# EAGLE library part AT91SAM9260B-QU (library atmega-atxmega)
AT91SAM9260 MCU AT91 ARM-9 Thumb Microcontroller
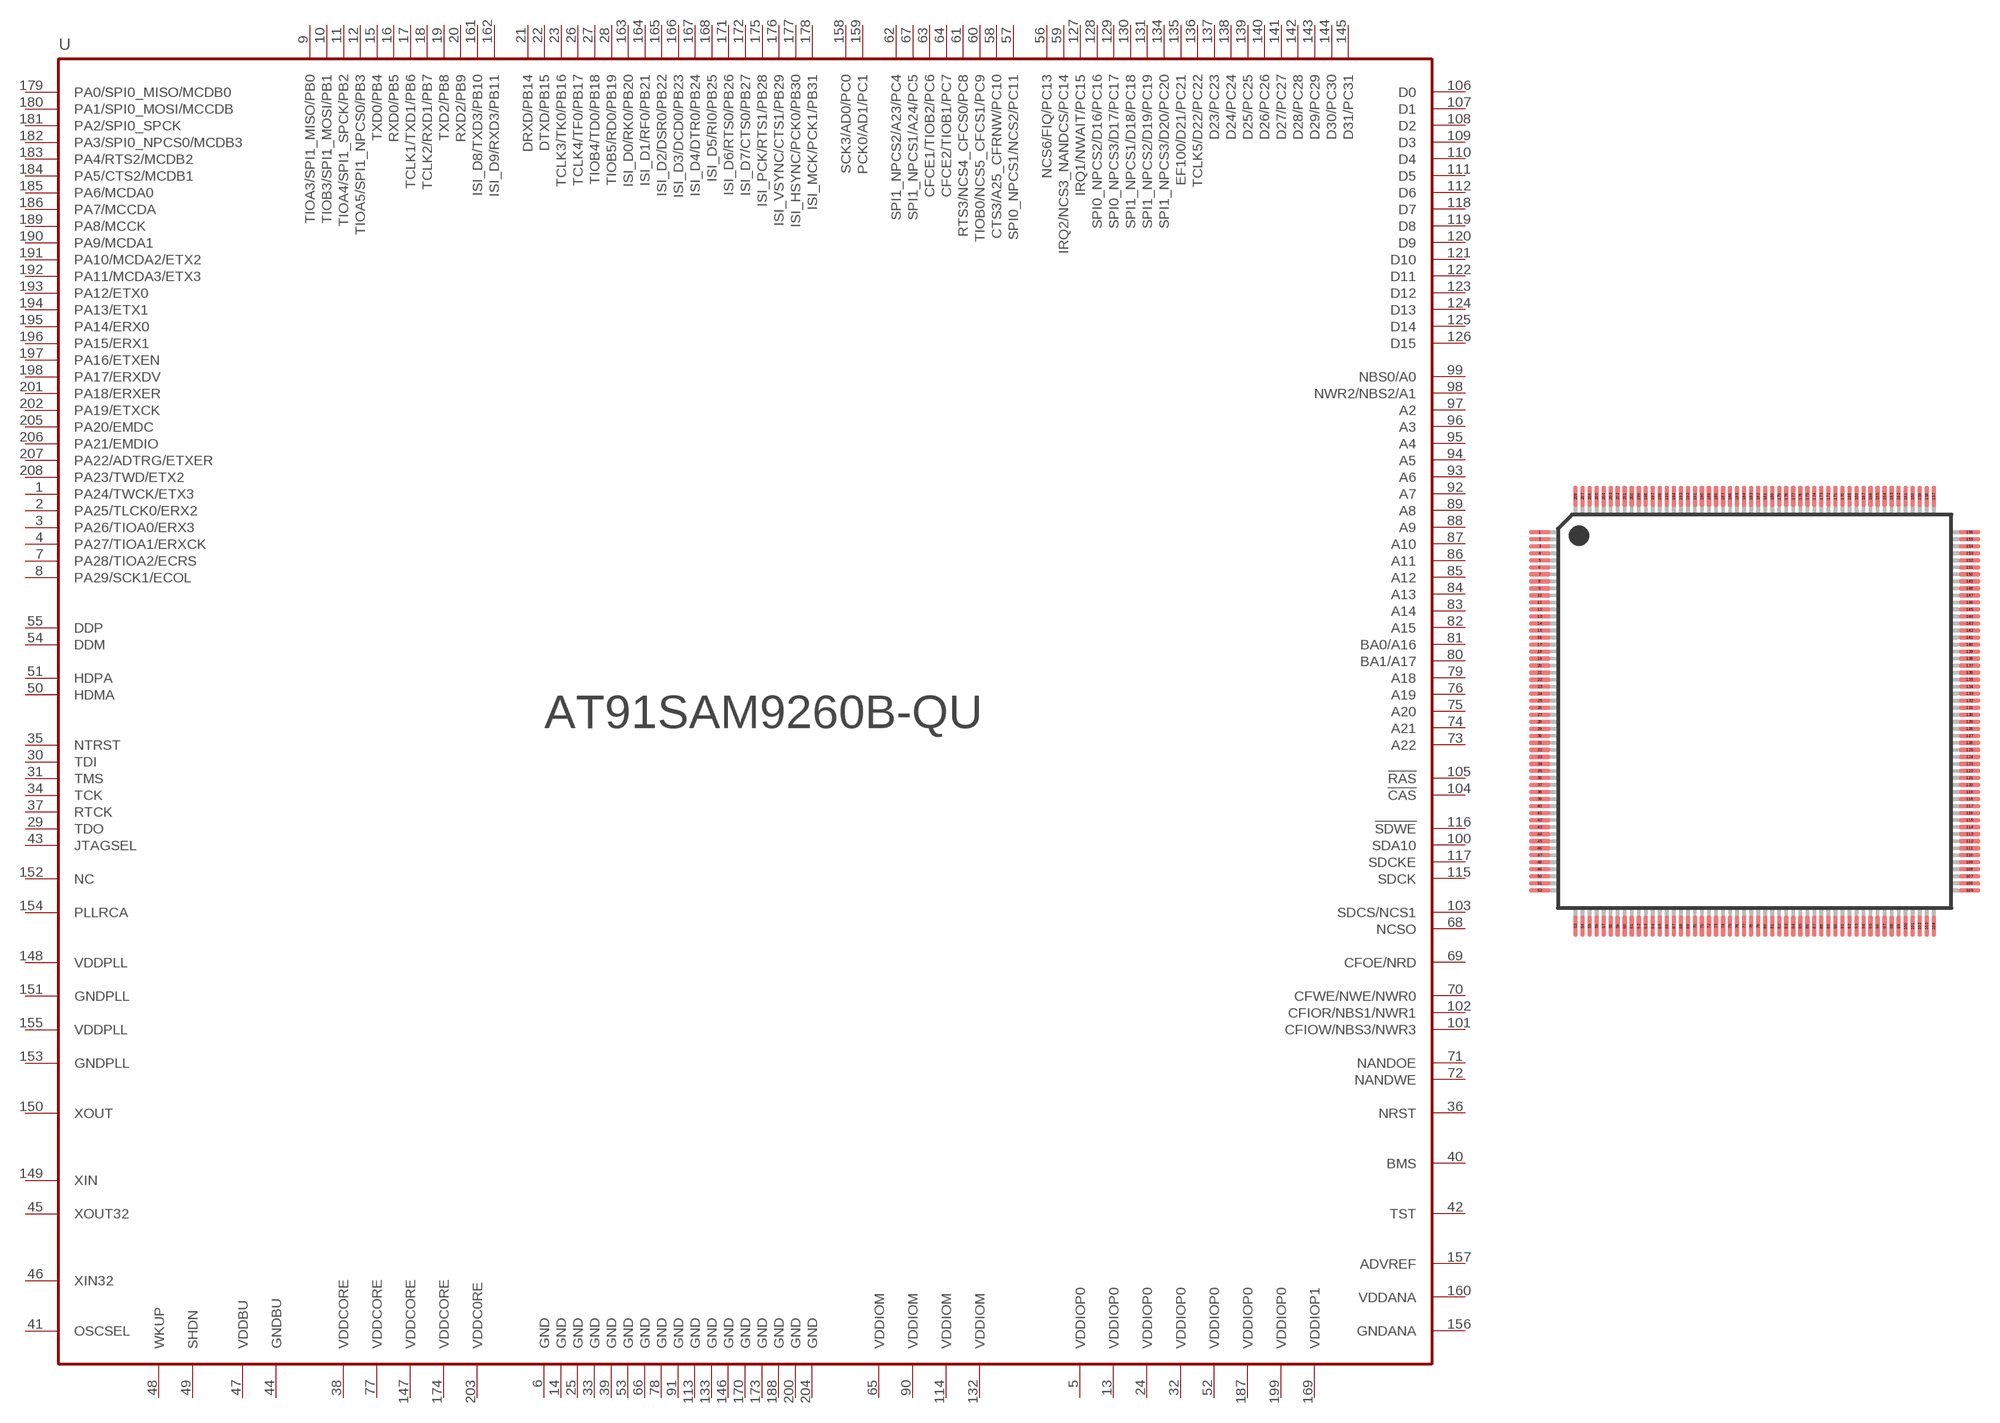
[diagram p149: symbol with the pads of PQFP208; footprint PQFP208]

Designator prefix U

## AT91SAM9260B-QU  [PQFP208]
1  PA24/TWCK/ETX3
2  PA25/TLCK0/ERX2
3  PA26/TIOA0/ERX3
4  PA27/TIOA1/ERXCK
5  VDDIOP0  pwr
6  GND  pwr
7  PA28/TIOA2/ECRS
8  PA29/SCK1/ECOL
9  TIOA3/SPI1_MISO/PB0
10  TIOB3/SPI1_MOSI/PB1
11  TIOA4/SPI1_SPCK/PB2
12  TIOA5/SPI1_NPCS0/PB3
13  VDDIOP0  pwr
14  GND  pwr
15  TXD0/PB4
16  RXD0/PB5
17  TCLK1/TXD1/PB6
18  TCLK2/RXD1/PB7
19  TXD2/PB8
20  RXD2/PB9
21  DRXD/PB14
22  DTXD/PB15
23  TCLK3/TK0/PB16
24  VDDIOP0  pwr
25  GND  pwr
26  TCLK4/TF0/PB17
27  TIOB4/TD0/PB18
28  TIOB5/RD0/PB19
29  TDO  out
30  TDI  in
31  TMS  in
32  VDDIOP0  pwr
33  GND  pwr
34  TCK  in
35  NTRST
36  NRST
37  RTCK  out
38  VDDCORE  pwr
39  GND  pwr
40  BMS  in
41  OSCSEL  in
42  TST  in
43  JTAGSEL
44  GNDBU  pwr
45  XOUT32  out
46  XIN32  in
47  VDDBU  pwr
48  WKUP  in
49  SHDN  out
50  HDMA
51  HDPA
52  VDDIOP0  pwr
53  GND  pwr
54  DDM
55  DDP
56  NCS6/FIQ/PC13
57  SPI0_NPCS1/NCS2/PC11
58  CTS3/A25_CFRNW/PC10
59  IRQ2/NCS3_NANDCS/PC14
60  TIOB0/NCS5_CFCS1/PC9
61  RTS3/NCS4_CFCS0/PC8
62  SPI1_NPCS2/A23/PC4
63  CFCE1/TIOB2/PC6
64  CFCE2/TIOB1/PC7
65  VDDIOM  pwr
66  GND  pwr
67  SPI1_NPCS1/A24/PC5
68  NCSO  out
69  CFOE/NRD  out
70  CFWE/NWE/NWR0  out
71  NANDOE  out
72  NANDWE  out
73  A22
74  A21
75  A20
76  A19
77  VDDCORE  pwr
78  GND  pwr
79  A18
80  BA1/A17
81  BA0/A16
82  A15
83  A14
84  A13
85  A12
86  A11
87  A10
88  A9
89  A8
90  VDDIOM  pwr
91  GND  pwr
92  A7
93  A6
94  A5
95  A4
96  A3
97  A2
98  NWR2/NBS2/A1
99  NBS0/A0
100  SDA10  out
101  CFIOW/NBS3/NWR3  out
102  CFIOR/NBS1/NWR1  out
103  SDCS/NCS1  out
104  !CAS  out
105  !RAS  out
106  D0
107  D1
108  D2
109  D3
110  D4
111  D5
112  D6
113  GND  pwr
114  VDDIOM  pwr
115  SDCK  out
116  !SDWE  out
117  SDCKE  out
118  D7
119  D8
120  D9
121  D10
122  D11
123  D12
124  D13
125  D14
126  D15
127  IRQ1/NWAIT/PC15
128  SPI0_NPCS2/D16/PC16
129  SPI0_NPCS3/D17/PC17
130  SPI1_NPCS1/D18/PC18
131  SPI1_NPCS2/D19/PC19
132  VDDIOM  pwr
133  GND  pwr
134  SPI1_NPCS3/D20/PC20
135  EF100/D21/PC21
136  TCLK5/D22/PC22
137  D23/PC23
138  D24/PC24
139  D25/PC25
140  D26/PC26
141  D27/PC27
142  D28/PC28
143  D29/PC29
144  D30/PC30
145  D31/PC31
146  GND  pwr
147  VDDCORE  pwr
148  VDDPLL  pwr
149  XIN  in
150  XOUT  out
151  GNDPLL  pwr
152  NC  nc
153  GNDPLL  pwr
154  PLLRCA  in
155  VDDPLL  pwr
156  GNDANA  pwr
157  ADVREF
158  SCK3/AD0/PC0
159  PCK0/AD1/PC1
160  VDDANA  pwr
161  ISI_D8/TXD3/PB10
162  ISI_D9/RXD3/PB11
163  ISI_D0/RK0/PB20
164  ISI_D1/RF0/PB21
165  ISI_D2/DSR0/PB22
166  ISI_D3/DCD0/PB23
167  ISI_D4/DTR0/PB24
168  ISI_D5/RI0/PB25
169  VDDIOP1  pwr
170  GND  pwr
171  ISI_D6/RTS0/PB26
172  ISI_D7/CTS0/PB27
173  GND  pwr
174  VDDCORE  pwr
175  ISI_PCK/RTS1/PB28
176  ISI_VSYNC/CTS1/PB29
177  ISI_HSYNC/PCK0/PB30
178  ISI_MCK/PCK1/PB31
179  PA0/SPI0_MISO/MCDB0
180  PA1/SPI0_MOSI/MCCDB
181  PA2/SPI0_SPCK
182  PA3/SPI0_NPCS0/MCDB3
183  PA4/RTS2/MCDB2
184  PA5/CTS2/MCDB1
185  PA6/MCDA0
186  PA7/MCCDA
187  VDDIOP0  pwr
188  GND  pwr
189  PA8/MCCK
190  PA9/MCDA1
191  PA10/MCDA2/ETX2
192  PA11/MCDA3/ETX3
193  PA12/ETX0
194  PA13/ETX1
195  PA14/ERX0
196  PA15/ERX1
197  PA16/ETXEN
198  PA17/ERXDV
199  VDDIOP0  pwr
200  GND  pwr
201  PA18/ERXER
202  PA19/ETXCK
203  VDDC0RE  pwr
204  GND  pwr
205  PA20/EMDC
206  PA21/EMDIO
207  PA22/ADTRG/ETXER
208  PA23/TWD/ETX2

## Footprint PQFP208 (pad centres in mm)
Plastic Quad Flat Pack 208-pin
smd 1.5 x 0.32: 1 -15.3,12.75; 2 -15.3,12.25; 3 -15.3,11.75; 4 -15.3,11.25; 5 -15.3,10.75; 6 -15.3,10.25; 7 -15.3,9.75; 8 -15.3,9.25; 9 -15.3,8.75; 10 -15.3,8.25; 11 -15.3,7.75; 12 -15.3,7.25; 13 -15.3,6.75; 14 -15.3,6.25; 15 -15.3,5.75; 16 -15.3,5.25; 17 -15.3,4.75; 18 -15.3,4.25; 19 -15.3,3.75; 20 -15.3,3.25; 21 -15.3,2.75; 22 -15.3,2.25; 23 -15.3,1.75; 24 -15.3,1.25; 25 -15.3,0.75; 26 -15.3,0.25; 27 -15.3,-0.25; 28 -15.3,-0.75; 29 -15.3,-1.25; 30 -15.3,-1.75; 31 -15.3,-2.25; 32 -15.3,-2.75; 33 -15.3,-3.25; 34 -15.3,-3.75; 35 -15.3,-4.25; 36 -15.3,-4.75; 37 -15.3,-5.25; 38 -15.3,-5.75; 39 -15.3,-6.25; 40 -15.3,-6.75; 41 -15.3,-7.25; 42 -15.3,-7.75; 43 -15.3,-8.25; 44 -15.3,-8.75; 45 -15.3,-9.25; 46 -15.3,-9.75; 47 -15.3,-10.25; 48 -15.3,-10.75; 49 -15.3,-11.25; 50 -15.3,-11.75; 51 -15.3,-12.25; 52 -15.3,-12.75; 105 15.3,-12.75; 106 15.3,-12.25; 107 15.3,-11.75; 108 15.3,-11.25; 109 15.3,-10.75; 110 15.3,-10.25; 111 15.3,-9.75; 112 15.3,-9.25; 113 15.3,-8.75; 114 15.3,-8.25; 115 15.3,-7.75; 116 15.3,-7.25; 117 15.3,-6.75; 118 15.3,-6.25; 119 15.3,-5.75; 120 15.3,-5.25; 121 15.3,-4.75; 122 15.3,-4.25; 123 15.3,-3.75; 124 15.3,-3.25; 125 15.3,-2.75; 126 15.3,-2.25; 127 15.3,-1.75; 128 15.3,-1.25; 129 15.3,-0.75; 130 15.3,-0.25; 131 15.3,0.25; 132 15.3,0.75; 133 15.3,1.25; 134 15.3,1.75; 135 15.3,2.25; 136 15.3,2.75; 137 15.3,3.25; 138 15.3,3.75; 139 15.3,4.25; 140 15.3,4.75; 141 15.3,5.25; 142 15.3,5.75; 143 15.3,6.25; 144 15.3,6.75; 145 15.3,7.25; 146 15.3,7.75; 147 15.3,8.25; 148 15.3,8.75; 149 15.3,9.25; 150 15.3,9.75; 151 15.3,10.25; 152 15.3,10.75; 153 15.3,11.25; 154 15.3,11.75; 155 15.3,12.25; 156 15.3,12.75
smd 0.32 x 1.5: 53 -12.75,-15.3; 54 -12.25,-15.3; 55 -11.75,-15.3; 56 -11.25,-15.3; 57 -10.75,-15.3; 58 -10.25,-15.3; 59 -9.75,-15.3; 60 -9.25,-15.3; 61 -8.75,-15.3; 62 -8.25,-15.3; 63 -7.75,-15.3; 64 -7.25,-15.3; 65 -6.75,-15.3; 66 -6.25,-15.3; 67 -5.75,-15.3; 68 -5.25,-15.3; 69 -4.75,-15.3; 70 -4.25,-15.3; 71 -3.75,-15.3; 72 -3.25,-15.3; 73 -2.75,-15.3; 74 -2.25,-15.3; 75 -1.75,-15.3; 76 -1.25,-15.3; 77 -0.75,-15.3; 78 -0.25,-15.3; 79 0.25,-15.3; 80 0.75,-15.3; 81 1.25,-15.3; 82 1.75,-15.3; 83 2.25,-15.3; 84 2.75,-15.3; 85 3.25,-15.3; 86 3.75,-15.3; 87 4.25,-15.3; 88 4.75,-15.3; 89 5.25,-15.3; 90 5.75,-15.3; 91 6.25,-15.3; 92 6.75,-15.3; 93 7.25,-15.3; 94 7.75,-15.3; 95 8.25,-15.3; 96 8.75,-15.3; 97 9.25,-15.3; 98 9.75,-15.3; 99 10.25,-15.3; 100 10.75,-15.3; 101 11.25,-15.3; 102 11.75,-15.3; 103 12.25,-15.3; 104 12.75,-15.3; 157 12.75,15.3; 158 12.25,15.3; 159 11.75,15.3; 160 11.25,15.3; 161 10.75,15.3; 162 10.25,15.3; 163 9.75,15.3; 164 9.25,15.3; 165 8.75,15.3; 166 8.25,15.3; 167 7.75,15.3; 168 7.25,15.3; 169 6.75,15.3; 170 6.25,15.3; 171 5.75,15.3; 172 5.25,15.3; 173 4.75,15.3; 174 4.25,15.3; 175 3.75,15.3; 176 3.25,15.3; 177 2.75,15.3; 178 2.25,15.3; 179 1.75,15.3; 180 1.25,15.3; 181 0.75,15.3; 182 0.25,15.3; 183 -0.25,15.3; 184 -0.75,15.3; 185 -1.25,15.3; 186 -1.75,15.3; 187 -2.25,15.3; 188 -2.75,15.3; 189 -3.25,15.3; 190 -3.75,15.3; 191 -4.25,15.3; 192 -4.75,15.3; 193 -5.25,15.3; 194 -5.75,15.3; 195 -6.25,15.3; 196 -6.75,15.3; 197 -7.25,15.3; 198 -7.75,15.3; 199 -8.25,15.3; 200 -8.75,15.3; 201 -9.25,15.3; 202 -9.75,15.3; 203 -10.25,15.3; 204 -10.75,15.3; 205 -11.25,15.3; 206 -11.75,15.3; 207 -12.25,15.3; 208 -12.75,15.3